# EAGLE library part RTL2832U (library balto)
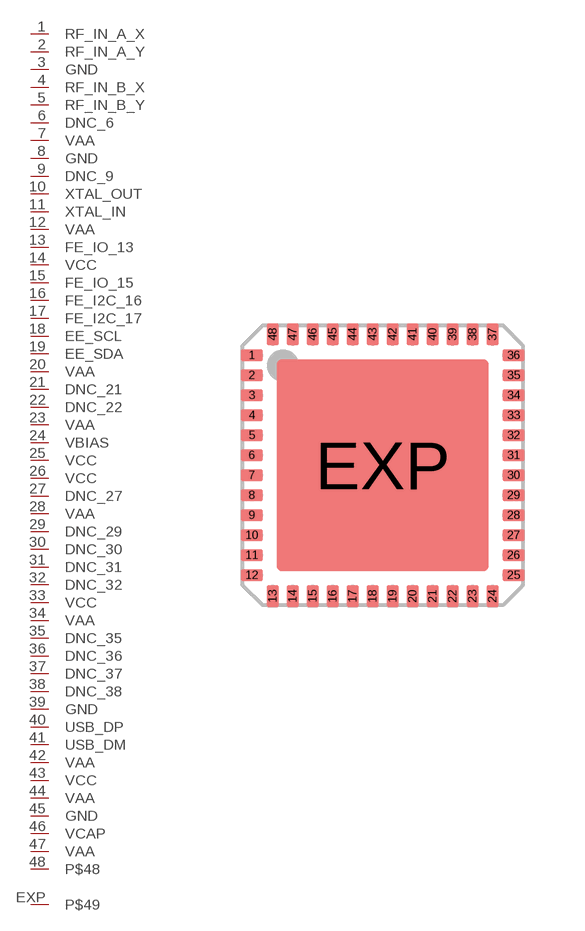
[diagram p43: symbol with the pads of QFN48; footprint QFN48]

Designator prefix -

## RTL2832U  [QFN48]
1  RF_IN_A_X
2  RF_IN_A_Y
3  GND
4  RF_IN_B_X
5  RF_IN_B_Y
6  DNC_6
7  VAA
8  GND
9  DNC_9
10  XTAL_OUT
11  XTAL_IN
12  VAA
13  FE_IO_13
14  VCC
15  FE_IO_15
16  FE_I2C_16
17  FE_I2C_17
18  EE_SCL
19  EE_SDA
20  VAA
21  DNC_21
22  DNC_22
23  VAA
24  VBIAS
25  VCC
26  VCC
27  DNC_27
28  VAA
29  DNC_29
30  DNC_30
31  DNC_31
32  DNC_32
33  VCC
34  VAA
35  DNC_35
36  DNC_36
37  DNC_37
38  DNC_38
39  GND
40  USB_DP
41  USB_DM
42  VAA
43  VCC
44  VAA
45  GND
46  VCAP
47  VAA
48  P$48
EXP  P$49

## Footprint QFN48 (pad centres in mm)
48-pin QFN 7 x 7 mm LF48 48 Quad Flat Package No Leads Source: http://v4.cypress.com/cfuploads/img/products/cywusb6934.pdf
smd 0.55 x 0.3: 1 -3.275,2.75; 2 -3.275,2.25; 3 -3.275,1.75; 4 -3.275,1.25; 5 -3.275,0.75; 6 -3.275,0.25; 7 -3.275,-0.25; 8 -3.275,-0.75; 9 -3.275,-1.25; 10 -3.275,-1.75; 11 -3.275,-2.25; 12 -3.275,-2.75; 25 3.275,-2.75; 26 3.275,-2.25; 27 3.275,-1.75; 28 3.275,-1.25; 29 3.275,-0.75; 30 3.275,-0.25; 31 3.275,0.25; 32 3.275,0.75; 33 3.275,1.25; 34 3.275,1.75; 35 3.275,2.25; 36 3.275,2.75
smd 0.3 x 0.55: 13 -2.75,-3.275; 14 -2.25,-3.275; 15 -1.75,-3.275; 16 -1.25,-3.275; 17 -0.75,-3.275; 18 -0.25,-3.275; 19 0.25,-3.275; 20 0.75,-3.275; 21 1.25,-3.275; 22 1.75,-3.275; 23 2.25,-3.275; 24 2.75,-3.275; 37 2.75,3.275; 38 2.25,3.275; 39 1.75,3.275; 40 1.25,3.275; 41 0.75,3.275; 42 0.25,3.275; 43 -0.25,3.275; 44 -0.75,3.275; 45 -1.25,3.275; 46 -1.75,3.275; 47 -2.25,3.275; 48 -2.75,3.275
smd 5.309 x 5.309: EXP 0,0